# Altium footprint library trafo-hammondmfg.PCBLIB: 17 footprints (part 1 of 2)
Each footprint in its own frame and in the unit in brackets; x right, y up, seen from the top. Pads: shape width x height; smd on the part's side, far side on the other; paste and mask are expansions set on the pad; w line width, h text height; cw(c..) or ccw(c..) is an arc to the next point about the centre after c.
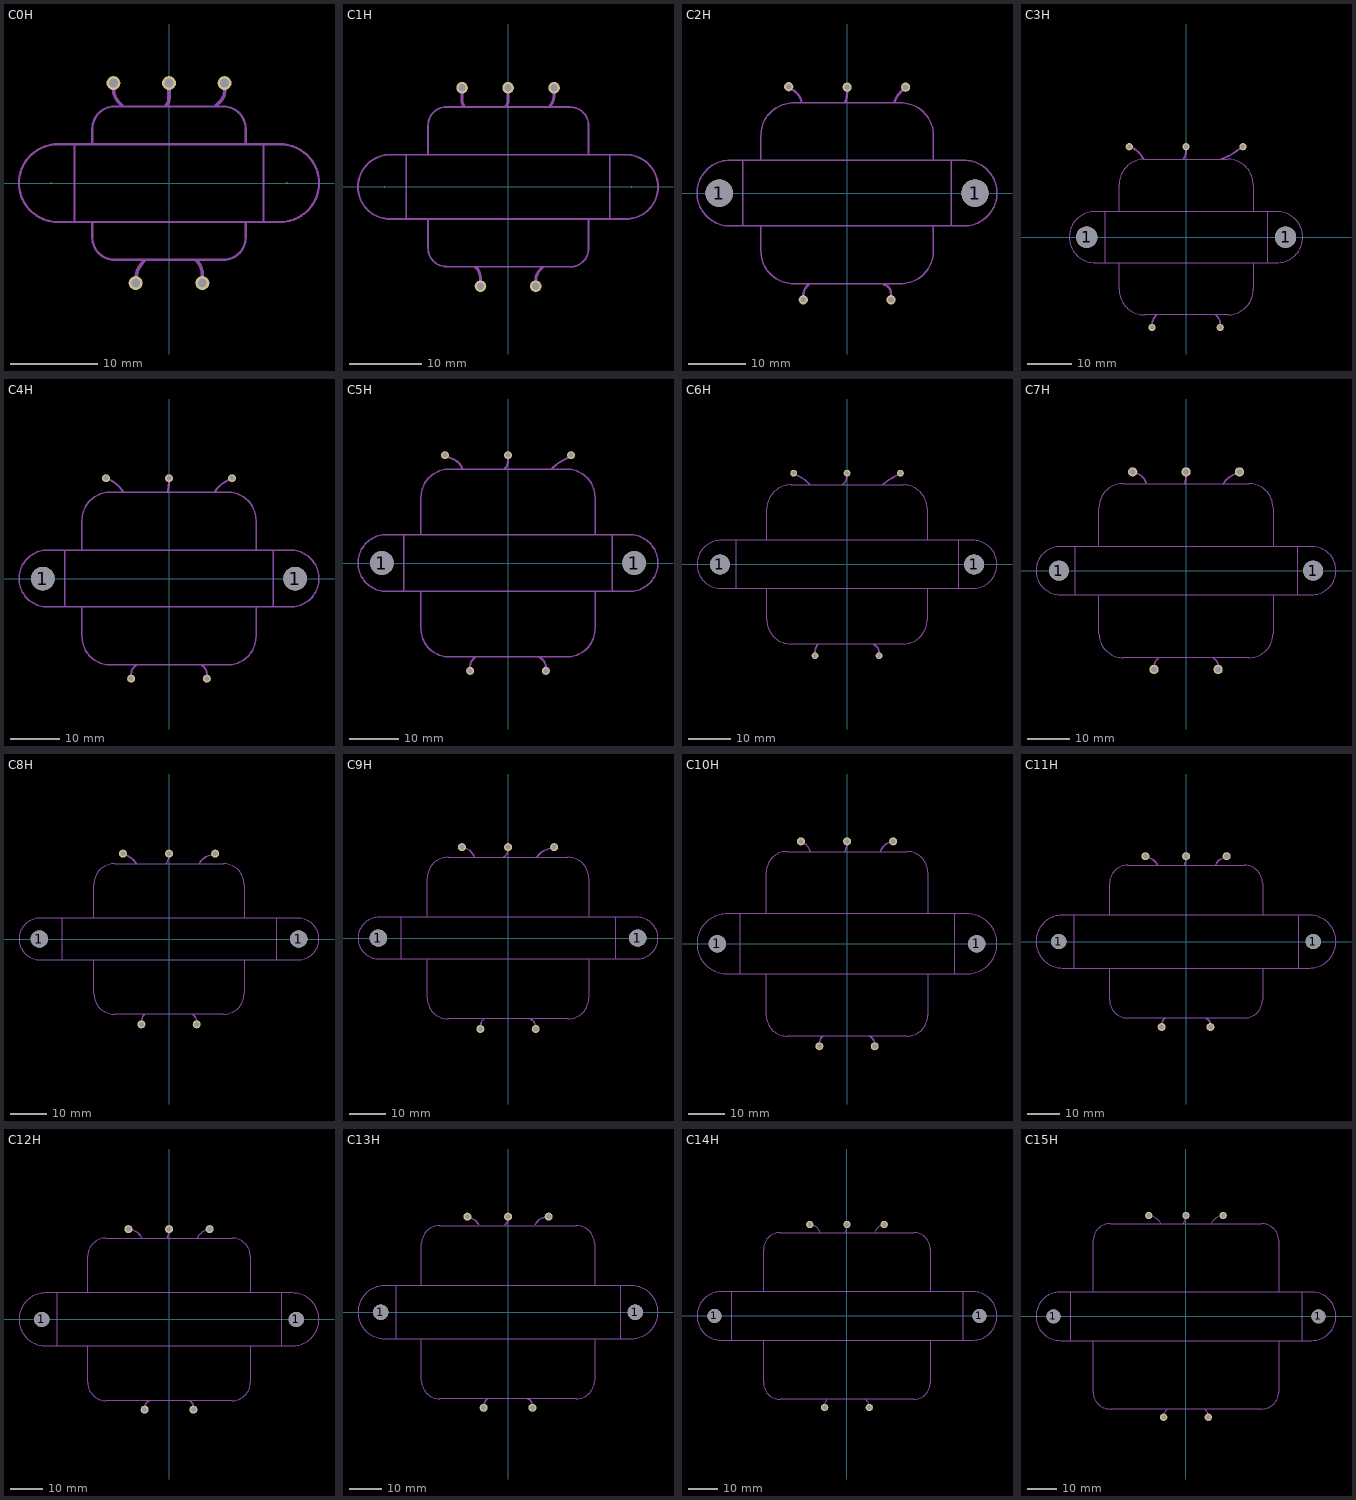
[diagram p0: the footprints below, top view; thin cyan lines are the x and y axes]

## C0H [mm]
pads (7):
  round 0.003 hole 0.003: 1(-13.462,0) 1(13.462,0)
  round 1.6 hole 1: BLK@1(-3.81,-11.43) BLK@2(3.81,-11.43) GRN/YEL(0,11.43) GRN@1(-6.35,11.43) GRN@2(6.35,11.43)
Mechanical 2:
  lines w0.254: -10.795,-4.445 -12.7,-4.445 cw(c-12.7,0) -17.145,0 cw(c-12.7,0) -12.7,4.445 -10.795,4.445 ; -10.795,-4.445 -8.763,-4.445 ; -10.795,-4.445 -10.795,4.445 ; -10.795,4.445 -8.763,4.445 ; -8.763,-4.445 8.763,-4.445 ; -8.763,-4.445 -8.763,-6.223 ccw(c-6.223,-6.223) -6.223,-8.763 6.223,-8.763 ccw(c6.223,-6.223) 8.763,-6.223 8.763,-4.445 ; -8.763,4.445 8.763,4.445 ; -8.763,4.445 -8.763,6.223 cw(c-6.223,6.223) -6.223,8.763 6.223,8.763 cw(c6.223,6.223) 8.763,6.223 8.763,4.445 ; 8.763,-4.445 10.795,-4.445 ; 8.763,4.445 10.795,4.445 ; 10.795,-4.445 12.7,-4.445 ccw(c12.7,0) 17.145,0 ccw(c12.7,0) 12.7,4.445 10.795,4.445 ; 10.795,-4.445 10.795,4.445
Mechanical 18:
  lines w0.406: -6.35,11.43 -6.35,10.795 ccw(c-4.05,10.795) -5.676,9.169 -5.397,8.89 ; -3.81,-11.43 -3.81,-11.189 cw(c-0.558,-11.19) -2.857,-8.89 ; -0.318,8.89 ccw(c-1.084,9.657) 0,9.657 0,10.16 0,11.43 ; 3.175,-8.89 cw(c1.642,-10.423) 3.81,-10.423 3.81,-10.795 3.81,-11.43 ; 5.397,8.89 5.901,9.393 ccw(c4.817,10.478) 6.35,10.477 6.35,11.43

## C1H [mm]
pads (7):
  round 0.003 hole 0.003: 1(-17.037,0) 1(17.012,0)
  round 1.6 hole 1: BLK@1(-3.81,-13.705) BLK@2(3.81,-13.705) GRN/YEL(0,13.68) GRN@1(-6.35,13.68) GRN@2(6.35,13.68)
Mechanical 2:
  lines w0.254: -14.053,-4.445 -16.275,-4.445 cw(c-16.275,0) -20.72,0 cw(c-16.275,0) -16.275,4.445 -14.053,4.445 ; -14.053,-4.445 -11.038,-4.42 ; -14.053,-4.445 -14.053,4.445 ; -14.053,4.445 -11.038,4.47 ; -11.038,-4.42 11.113,-4.445 ; -11.038,-4.42 -11.038,-8.473 ccw(c-8.498,-8.473) -8.498,-11.013 8.573,-11.038 ccw(c8.573,-8.498) 11.113,-8.498 11.113,-4.445 ; -11.038,4.47 11.113,4.445 ; -11.038,4.47 -11.038,8.498 cw(c-8.498,8.498) -8.498,11.038 8.573,11.013 cw(c8.573,8.473) 11.113,8.473 11.113,4.445 ; 11.113,-4.445 14.027,-4.445 ; 11.113,4.445 14.027,4.445 ; 14.027,-4.445 16.25,-4.445 ccw(c16.25,0) 20.695,0 ccw(c16.25,0) 16.25,4.445 14.027,4.445 ; 14.027,-4.445 14.027,4.445
Mechanical 18:
  lines w0.406: -6.35,13.652 -6.35,13.018 -6.35,11.879 ccw(c-5.266,11.879) -6.032,11.112 ; -4.445,-11.113 cw(c-5.978,-12.646) -3.81,-12.646 -3.81,-12.7 -3.81,-13.652 ; -0.318,11.112 ccw(c-1.084,11.879) 0,11.879 0,12.065 0,13.652 ; 3.81,-13.652 3.81,-13.018 cw(c6.191,-13.018) 4.762,-11.113 ; 5.715,11.113 ccw(c4.182,12.646) 6.35,12.646 6.35,13.018 6.35,13.652

## C2H [mil]
pads (7):
  round 187 hole 187: 1(-875,0) 1(875,0)
  round 62.99 hole 39.37: BLK@1(-300,-730.12) BLK@2(300,-730.12) GRN/YEL(0,725) GRN@1(-400,728.15) GRN@2(400,725)
Mechanical 2:
  lines w10: -714.86,-225 -802.36,-225 cw(c-802.36,0) -1027.36,0 cw(c-802.36,0) -802.36,225 -714.86,225 ; -714.86,-225 -590,-225 ; -714.86,-225 -714.86,225 ; -714.86,225 -590,225 ; -590,-225 590,-225 ; -590,-225 -590,-395.12 ccw(c-365,-395.12) -365,-620.12 365,-620.12 ccw(c365,-395.12) 590,-395.12 590,-225 ; -590,225 590,225 ; -590,225 -590,393.15 cw(c-365,393.15) -365,618.15 365,618.15 cw(c365,393.15) 590,393.15 590,225 ; 590,-225 712.89,-225 ; 590,225 712.89,225 ; 712.89,-225 800.39,-225 ccw(c800.39,0) 1025.39,0 ccw(c800.39,0) 800.39,225 712.89,225 ; 712.89,-225 712.89,225
Mechanical 18:
  lines w16: -400,725 -362.5,700 cw(c-427.5,602.5) -312.5,625 ; -300,-725 -300,-700 cw(c-206.25,-700) -262.5,-625 ; -12.5,625 ccw(c-162.5,687.5) 0,687.5 0,725 ; 250,-625 cw(c235.94,-687.5) 300,-687.5 300,-725 ; 325,625 cw(c468.75,581.25) 362.5,687.5 400,725

## C3H [mil]
pads (7):
  round 187 hole 187: 1(-875,0) 1(875,0)
  round 62.99 hole 39.37: BLK@1(-300,-794.09) BLK@2(300,-794.09) GRN/YEL(0,796.06) GRN@1(-500,796.06) GRN@2(500,796.06)
Mechanical 2:
  lines w10: -714.86,-225 -802.36,-225 cw(c-802.36,0) -1027.36,0 cw(c-802.36,0) -802.36,225 -714.86,225 ; -714.86,-225 -590,-225 ; -714.86,-225 -714.86,225 ; -714.86,225 -590,225 ; -590,-225 590,-225 ; -590,-225 -590,-459.09 ccw(c-365,-459.09) -365,-684.09 365,-684.09 ccw(c365,-459.09) 590,-459.09 590,-225 ; -590,225 590,225 ; -590,225 -590,461.06 cw(c-365,461.06) -365,686.06 365,686.06 cw(c365,461.06) 590,461.06 590,225 ; 590,-225 712.89,-225 ; 590,225 712.89,225 ; 712.89,-225 800.39,-225 ccw(c800.39,0) 1025.39,0 ccw(c800.39,0) 800.39,225 712.89,225 ; 712.89,-225 712.89,225
Mechanical 18:
  lines w16: -500,800 -475,787.5 cw(c-575,587.5) -375,687.5 ; -300,-787.5 -300,-775 cw(c-179.17,-775) -262.5,-687.5 ; -25,687.5 ccw(c-125,762.5) 0,762.5 0,800 ; 262.5,-687.5 cw(c206.25,-762.5) 300,-762.5 300,-787.5 ; 312.5,687.5 ccw(c122.92,1198.61) 450,762.5 500,800

## C4H [mil]
pads (7):
  round 187 hole 187: 1(-1000,0) 1(1000,0)
  round 62.99 hole 39.37: BLK@1(-300,-794.09) BLK@2(300,-794.09) GRN/YEL(0,796.06) GRN@1(-500,796.06) GRN@2(500,796.06)
Mechanical 2:
  lines w10: -827.26,-225 -964.76,-225 cw(c-964.76,0) -1189.76,0 cw(c-964.76,0) -964.76,225 -827.26,225 ; -827.26,-225 -690.39,-225 ; -827.26,-225 -827.26,225 ; -827.26,225 -690.39,225 ; -690.39,-225 690.39,-225 ; -690.39,-225 -690.39,-459.09 ccw(c-465.39,-459.09) -465.39,-684.09 465.39,-684.09 ccw(c465.39,-459.09) 690.39,-459.09 690.39,-225 ; -690.39,225 690.39,225 ; -690.39,225 -690.39,461.06 cw(c-465.39,461.06) -465.39,686.06 465.39,686.06 cw(c465.39,461.06) 690.39,461.06 690.39,225 ; 690.39,-225 827.26,-225 ; 690.39,225 827.26,225 ; 827.26,-225 964.76,-225 ccw(c964.76,0) 1189.76,0 ccw(c964.76,0) 964.76,225 827.26,225 ; 827.26,-225 827.26,225
Mechanical 18:
  lines w16: -500,800 -475,787.5 cw(c-604.46,528.57) -362.5,687.5 ; -300,-787.5 -300,-762.5 cw(c-206.25,-762.5) -262.5,-687.5 ; -12.5,687.5 ccw(c-312.5,775) 0,775 0,800 ; 262.5,-687.5 cw(c206.25,-762.5) 300,-762.5 300,-787.5 ; 362.5,687.5 cw(c550,575) 437.5,762.5 500,800

## C5H [mil]
pads (7):
  round 187 hole 187: 1(-1000,0) 1(1000,0)
  round 62.99 hole 39.37: BLK@1(-300,-855.12) BLK@2(300,-855.12) GRN/YEL(0,855.12) GRN@1(-500,855.12) GRN@2(500,855.12)
Mechanical 2:
  lines w10: -827.26,-225 -964.76,-225 cw(c-964.76,0) -1189.76,0 cw(c-964.76,0) -964.76,225 -827.26,225 ; -827.26,-225 -690.39,-225 ; -827.26,-225 -827.26,225 ; -827.26,225 -690.39,225 ; -690.39,-225 690.39,-225 ; -690.39,-225 -690.39,-520.12 ccw(c-465.39,-520.12) -465.39,-745.12 465.39,-745.12 ccw(c465.39,-520.12) 690.39,-520.12 690.39,-225 ; -690.39,225 690.39,225 ; -690.39,225 -690.39,520.12 cw(c-465.39,520.12) -465.39,745.12 465.39,745.12 cw(c465.39,520.12) 690.39,520.12 690.39,225 ; 690.39,-225 827.26,-225 ; 690.39,225 827.26,225 ; 827.26,-225 964.76,-225 ccw(c964.76,0) 1189.76,0 ccw(c964.76,0) 964.76,225 827.26,225 ; 827.26,-225 827.26,225
Mechanical 18:
  lines w16: -500,850 -437.5,825 cw(c-487.5,700) -362.5,750 ; -300,-850 -300,-825 cw(c-206.25,-825) -262.5,-750 ; -25,750 ccw(c-90.62,812.5) 0,812.5 0,850 ; 250,-750 cw(c218.75,-825) 300,-825 300,-850 ; 350,750 cw(c540.62,575.78) 412.5,800 500,850

## C6H [mil]
pads (7):
  round 187 hole 187: 1(-1190,0) 1(1190,0)
  round 62.99 hole 39.37: BLK@1(-300,-855.12) BLK@2(300,-855.12) GRN/YEL(0,855.12) GRN@1(-500,855.12) GRN@2(500,855.12)
Mechanical 2:
  lines w10: -1042.81,-225 -1180.31,-225 cw(c-1180.31,0) -1405.31,0 cw(c-1180.31,0) -1180.31,225 -1042.81,225 ; -1042.81,-225 -750.43,-225 ; -1042.81,-225 -1042.81,225 ; -1042.81,225 -750.43,225 ; -750.43,-225 749.45,-225 ; -750.43,-225 -750.43,-520.12 ccw(c-525.43,-520.12) -525.43,-745.12 524.45,-745.12 ccw(c524.45,-520.12) 749.45,-520.12 749.45,-225 ; -750.43,225 749.45,225 ; -750.43,225 -750.43,520.12 cw(c-525.43,520.12) -525.43,745.12 524.45,745.12 cw(c524.45,520.12) 749.45,520.12 749.45,225 ; 749.45,-225 1041.83,-225 ; 749.45,225 1041.83,225 ; 1041.83,-225 1179.33,-225 ccw(c1179.33,0) 1404.33,0 ccw(c1179.33,0) 1179.33,225 1041.83,225 ; 1041.83,-225 1041.83,225
Mechanical 18:
  lines w16: -500,850 -450,825 cw(c-606.25,512.5) -350,750 ; -300,-850 -300,-825 cw(c-175,-825) -275,-750 ; -37.5,750 ccw(c-120.83,837.5) 0,837.5 0,862.5 ; 250,-750 cw(c218.75,-825) 300,-825 300,-850 ; 337.5,750 cw(c693.75,337.5) 450,825 500,850

## C7H [mil]
pads (7):
  round 187 hole 187: 1(-1190,0) 1(1190,0)
  round 86.61 hole 55.12: BLK@1(-300,-925) BLK@2(300,-925) GRN/YEL(0,925) GRN@1(-500,925) GRN@2(500,925)
Mechanical 2:
  lines w10: -1042.81,-225 -1180.31,-225 cw(c-1180.31,0) -1405.31,0 cw(c-1180.31,0) -1180.31,225 -1042.81,225 ; -1042.81,-225 -815.39,-225 ; -1042.81,-225 -1042.81,225 ; -1042.81,225 -815.39,225 ; -815.39,-225 814.41,-225 ; -815.39,-225 -815.39,-590 ccw(c-590.39,-590) -590.39,-815 589.41,-815 ccw(c589.41,-590) 814.41,-590 814.41,-225 ; -815.39,225 814.41,225 ; -815.39,225 -815.39,590 cw(c-590.39,590) -590.39,815 589.41,815 cw(c589.41,590) 814.41,590 814.41,225 ; 814.41,-225 1041.83,-225 ; 814.41,225 1041.83,225 ; 1041.83,-225 1179.33,-225 ccw(c1179.33,0) 1404.33,0 ccw(c1179.33,0) 1179.33,225 1041.83,225 ; 1041.83,-225 1041.83,225
Mechanical 18:
  lines w16: -500,925 -462.5,912.5 cw(c-506.25,781.25) -375,825 ; -300,-912.5 -300,-900 cw(c-206.25,-900) -262.5,-825 ; -12.5,812.5 ccw(c-231.25,887.5) 0,887.5 0,925 ; 262.5,-825 cw(c229.17,-887.5) 300,-887.5 300,-925 ; 350,812.5 cw(c500,737.5) 425,887.5 500,925

## C8H [mil]
pads (7):
  round 187 hole 187: 1(-1405,0) 1(1405,0)
  round 86.61 hole 55.12: BLK@1(-300,-925) BLK@2(300,-925) GRN/YEL(0,925) GRN@1(-500,925) GRN@2(500,925)
Mechanical 2:
  lines w10: -1163.29,-225 -1400.79,-225 cw(c-1400.79,0) -1625.79,0 cw(c-1400.79,0) -1400.79,225 -1163.29,225 ; -1163.29,-225 -815.39,-225 ; -1163.29,-225 -1163.29,225 ; -1163.29,225 -815.39,225 ; -815.39,-225 814.41,-225 ; -815.39,-225 -815.39,-590 ccw(c-590.39,-590) -590.39,-815 589.41,-815 ccw(c589.41,-590) 814.41,-590 814.41,-225 ; -815.39,225 814.41,225 ; -815.39,225 -815.39,590 cw(c-590.39,590) -590.39,815 589.41,815 cw(c589.41,590) 814.41,590 814.41,225 ; 814.41,-225 1162.3,-225 ; 814.41,225 1162.3,225 ; 1162.3,-225 1399.8,-225 ccw(c1399.8,0) 1624.8,0 ccw(c1399.8,0) 1399.8,225 1162.3,225 ; 1162.3,-225 1162.3,225
Mechanical 18:
  lines w16: -500,925 -450,900 cw(c-567.71,664.58) -350,812.5 ; -300,-925 -300,-912.5 cw(c-147.92,-912.5) -262.5,-812.5 ; -37.5,812.5 ccw(c-152.08,912.5) 0,912.5 0,925 ; 250,-812.5 cw(c198.44,-900) 300,-900 300,-925 ; 325,812.5 cw(c479.33,737.02) 425,900 500,925

## C9H [mil]
pads (7):
  round 187 hole 187: 1(-1405,0) 1(1405,0)
  round 86.61 hole 55.12: BLK@1(-300,-985.04) BLK@2(300,-985.04) GRN/YEL(0,985.04) GRN@1(-500,985.04) GRN@2(500,985.04)
Mechanical 2:
  lines w10: -1163.29,-225 -1400.79,-225 cw(c-1400.79,0) -1625.79,0 cw(c-1400.79,0) -1400.79,225 -1163.29,225 ; -1163.29,-225 -875.43,-225 ; -1163.29,-225 -1163.29,225 ; -1163.29,225 -875.43,225 ; -875.43,-225 874.45,-225 ; -875.43,-225 -875.43,-650.04 ccw(c-650.43,-650.04) -650.43,-875.04 649.45,-875.04 ccw(c649.45,-650.04) 874.45,-650.04 874.45,-225 ; -875.43,225 874.45,225 ; -875.43,225 -875.43,650.04 cw(c-650.43,650.04) -650.43,875.04 649.45,875.04 cw(c649.45,650.04) 874.45,650.04 874.45,225 ; 874.45,-225 1162.3,-225 ; 874.45,225 1162.3,225 ; 1162.3,-225 1399.8,-225 ccw(c1399.8,0) 1624.8,0 ccw(c1399.8,0) 1399.8,225 1162.3,225 ; 1162.3,-225 1162.3,225
Mechanical 18:
  lines w16: -500,987.5 -462.5,975 cw(c-512.5,825) -362.5,875 ; -300,-975 -300,-962.5 cw(c-179.17,-962.5) -262.5,-875 ; -50,875 ccw(c-101.56,962.5) 0,962.5 0,987.5 ; 237.5,-875 cw(c207.5,-962.5) 300,-962.5 300,-987.5 ; 312.5,875 cw(c492.71,759.38) 425,962.5 500,987.5

## C10H [mil]
pads (7):
  round 187 hole 187: 1(-1405,0) 1(1405,0)
  round 86.61 hole 55.12: BLK@1(-300,-1110.04) BLK@2(300,-1110.04) GRN/YEL(0,1110.04) GRN@1(-500,1110.04) GRN@2(500,1110.04)
Mechanical 2:
  lines w10: -1163.29,-325 -1300.79,-325 cw(c-1300.79,0) -1625.79,0 cw(c-1300.79,0) -1300.79,325 -1163.29,325 ; -1163.29,-325 -875.43,-325 ; -1163.29,-325 -1163.29,325 ; -1163.29,325 -875.43,325 ; -875.43,-325 874.45,-325 ; -875.43,-325 -875.43,-775.04 ccw(c-650.43,-775.04) -650.43,-1000.04 649.45,-1000.04 ccw(c649.45,-775.04) 874.45,-775.04 874.45,-325 ; -875.43,325 874.45,325 ; -875.43,325 -875.43,775.04 cw(c-650.43,775.04) -650.43,1000.04 649.45,1000.04 cw(c649.45,775.04) 874.45,775.04 874.45,325 ; 874.45,-325 1162.3,-325 ; 874.45,325 1162.3,325 ; 1162.3,-325 1299.8,-325 ccw(c1299.8,0) 1624.8,0 ccw(c1299.8,0) 1299.8,325 1162.3,325 ; 1162.3,-325 1162.3,325
Mechanical 18:
  lines w16: -500,1112.5 -462.5,1087.5 cw(c-546.59,961.36) -400,1000 ; -300,-1100 -300,-1087.5 cw(c-179.17,-1087.5) -262.5,-1000 ; -25,1000 ccw(c-212.5,1100) 0,1100 0,1112.5 ; 237.5,-1000 cw(c207.5,-1087.5) 300,-1087.5 300,-1112.5 ; 362.5,1000 cw(c512.5,950) 462.5,1100 500,1112.5

## C11H [mil]
pads (7):
  round 187 hole 187: 1(-1565,0) 1(1565,0)
  round 98.43 hole 62.99: BLK@1(-300,-1050) BLK@2(300,-1050) GRN/YEL(0,1050) GRN@1(-500,1050) GRN@2(500,1050)
Mechanical 2:
  lines w10: -1382.78,-325 -1520.28,-325 cw(c-1520.28,0) -1845.28,0 cw(c-1520.28,0) -1520.28,325 -1382.78,325 ; -1382.78,-325 -940.39,-325 ; -1382.78,-325 -1382.78,325 ; -1382.78,325 -940.39,325 ; -940.39,-325 940.39,-325 ; -940.39,-325 -940.39,-715 ccw(c-715.39,-715) -715.39,-940 715.39,-940 ccw(c715.39,-715) 940.39,-715 940.39,-325 ; -940.39,325 940.39,325 ; -940.39,325 -940.39,715 cw(c-715.39,715) -715.39,940 715.39,940 cw(c715.39,715) 940.39,715 940.39,325 ; 940.39,-325 1381.79,-325 ; 940.39,325 1381.79,325 ; 1381.79,-325 1519.29,-325 ccw(c1519.29,0) 1844.29,0 ccw(c1519.29,0) 1519.29,325 1381.79,325 ; 1381.79,-325 1381.79,325
Mechanical 18:
  lines w16: -500,1050 -437.5,1025 cw(c-495.83,879.17) -350,937.5 ; -300,-1050 -300,-1025 cw(c-198.44,-1025) -250,-937.5 ; -25,937.5 ccw(c-165.62,1025) 0,1025 0,1050 ; 237.5,-937.5 cw(c207.5,-1025) 300,-1025 300,-1050 ; 362.5,937.5 cw(c479.46,903.57) 425,1012.5 500,1050

## C12H [mil]
pads (7):
  round 187 hole 187: 1(-1565,0) 1(1565,0)
  round 98.43 hole 62.99: BLK@1(-300,-1110.04) BLK@2(300,-1110.04) GRN/YEL(0,1110.04) GRN@1(-500,1110.04) GRN@2(500,1110.04)
Mechanical 2:
  lines w10: -1382.78,-325 -1520.28,-325 cw(c-1520.28,0) -1845.28,0 cw(c-1520.28,0) -1520.28,325 -1382.78,325 ; -1382.78,-325 -1000.43,-325 ; -1382.78,-325 -1382.78,325 ; -1382.78,325 -1000.43,325 ; -1000.43,-325 999.45,-325 ; -1000.43,-325 -1000.43,-775.04 ccw(c-775.43,-775.04) -775.43,-1000.04 774.45,-1000.04 ccw(c774.45,-775.04) 999.45,-775.04 999.45,-325 ; -1000.43,325 999.45,325 ; -1000.43,325 -1000.43,775.04 cw(c-775.43,775.04) -775.43,1000.04 774.45,1000.04 cw(c774.45,775.04) 999.45,775.04 999.45,325 ; 999.45,-325 1381.79,-325 ; 999.45,325 1381.79,325 ; 1381.79,-325 1519.29,-325 ccw(c1519.29,0) 1844.29,0 ccw(c1519.29,0) 1519.29,325 1381.79,325 ; 1381.79,-325 1381.79,325
Mechanical 18:
  lines w16: -500,1112.5 -450,1100 cw(c-489.4,942.39) -337.5,1000 ; -300,-1100 -300,-1087.5 cw(c-207.5,-1087.5) -237.5,-1000 ; -25,1000 ccw(c-212.5,1100) 0,1100 0,1112.5 ; 250,-1000 cw(c218.75,-1075) 300,-1075 300,-1100 ; 350,1000 cw(c495.83,941.67) 437.5,1087.5 500,1112.5

## C13H [mil]
pads (7):
  round 187 hole 187: 1(-1565,0) 1(1565,0)
  round 98.43 hole 62.99: BLK@1(-300,-1175.04) BLK@2(300,-1175.04) GRN/YEL(0,1175.04) GRN@1(-500,1175.04) GRN@2(500,1175.04)
Mechanical 2:
  lines w10: -1382.78,-325 -1520.28,-325 cw(c-1520.28,0) -1845.28,0 cw(c-1520.28,0) -1520.28,325 -1382.78,325 ; -1382.78,-325 -1065.43,-325 ; -1382.78,-325 -1382.78,325 ; -1382.78,325 -1065.43,325 ; -1065.43,-325 1064.45,-325 ; -1065.43,-325 -1065.43,-840.04 ccw(c-840.43,-840.04) -840.43,-1065.04 839.45,-1065.04 ccw(c839.45,-840.04) 1064.45,-840.04 1064.45,-325 ; -1065.43,325 1064.45,325 ; -1065.43,325 -1065.43,840.04 cw(c-840.43,840.04) -840.43,1065.04 839.45,1065.04 cw(c839.45,840.04) 1064.45,840.04 1064.45,325 ; 1064.45,-325 1381.79,-325 ; 1064.45,325 1381.79,325 ; 1381.79,-325 1519.29,-325 ccw(c1519.29,0) 1844.29,0 ccw(c1519.29,0) 1519.29,325 1381.79,325 ; 1381.79,-325 1381.79,325
Mechanical 18:
  lines w16: -500,1175 -462.5,1162.5 cw(c-516.83,999.52) -362.5,1075 ; -300,-1175 -300,-1162.5 cw(c-175,-1162.5) -250,-1062.5 ; -37.5,1075 ccw(c-93.75,1150) 0,1150 0,1175 ; 237.5,-1062.5 cw(c207.5,-1150) 300,-1150 300,-1175 ; 337.5,1075 cw(c463.66,1031.71) 437.5,1162.5 500,1175

## C14H [mil]
pads (7):
  round 187 hole 187: 1(-1780,0) 1(1780,0)
  round 98.43 hole 62.99: BLK@1(-300,-1230.04) BLK@2(300,-1230.04) GRN/YEL(0,1230.04) GRN@1(-500,1230.04) GRN@2(500,1230.04)
Mechanical 2:
  lines w10: -1552.07,-325 -1689.57,-325 cw(c-1689.57,0) -2014.57,0 cw(c-1689.57,0) -1689.57,325 -1552.07,325 ; -1552.07,-325 -1120.43,-325 ; -1552.07,-325 -1552.07,325 ; -1552.07,325 -1120.43,325 ; -1120.43,-325 1119.45,-325 ; -1120.43,-325 -1120.43,-895.04 ccw(c-895.43,-895.04) -895.43,-1120.04 894.45,-1120.04 ccw(c894.45,-895.04) 1119.45,-895.04 1119.45,-325 ; -1120.43,325 1119.45,325 ; -1120.43,325 -1120.43,895.04 cw(c-895.43,895.04) -895.43,1120.04 894.45,1120.04 cw(c894.45,895.04) 1119.45,895.04 1119.45,325 ; 1119.45,-325 1553.05,-325 ; 1119.45,325 1553.05,325 ; 1553.05,-325 1690.55,-325 ccw(c1690.55,0) 2015.55,0 ccw(c1690.55,0) 1690.55,325 1553.05,325 ; 1553.05,-325 1553.05,325
Mechanical 18:
  lines w16: -500,1225 -450,1212.5 cw(c-479.17,1095.83) -362.5,1125 ; -300,-1225 -300,-1200 cw(c-175,-1200) -275,-1125 ; -25,1125 ccw(c-165.62,1212.5) 0,1212.5 0,1225 ; 250,-1125 cw(c198.44,-1212.5) 300,-1212.5 300,-1237.5 ; 375,1125 cw(c516.41,1079.69) 450,1212.5 500,1237.5

## C15H [mil]
pads (7):
  round 187 hole 187: 1(-1780,0) 1(1780,0)
  round 98.43 hole 62.99: BLK@1(-300,-1355.04) BLK@2(300,-1355.04) GRN/YEL(0,1355.04) GRN@1(-500,1355.04) GRN@2(500,1355.04)
Mechanical 2:
  lines w10: -1552.07,-325 -1689.57,-325 cw(c-1689.57,0) -2014.57,0 cw(c-1689.57,0) -1689.57,325 -1552.07,325 ; -1552.07,-325 -1245.43,-325 ; -1552.07,-325 -1552.07,325 ; -1552.07,325 -1245.43,325 ; -1245.43,-325 1244.45,-325 ; -1245.43,-325 -1245.43,-1020.04 ccw(c-1020.43,-1020.04) -1020.43,-1245.04 1019.45,-1245.04 ccw(c1019.45,-1020.04) 1244.45,-1020.04 1244.45,-325 ; -1245.43,325 1244.45,325 ; -1245.43,325 -1245.43,1020.04 cw(c-1020.43,1020.04) -1020.43,1245.04 1019.45,1245.04 cw(c1019.45,1020.04) 1244.45,1020.04 1244.45,325 ; 1244.45,-325 1553.05,-325 ; 1244.45,325 1553.05,325 ; 1553.05,-325 1690.55,-325 ccw(c1690.55,0) 2015.55,0 ccw(c1690.55,0) 1690.55,325 1553.05,325 ; 1553.05,-325 1553.05,325
Mechanical 18:
  lines w16: -500,1362.5 -437.5,1337.5 cw(c-511.84,1151.64) -337.5,1250 ; -300,-1350 -300,-1337.5 cw(c-198.44,-1337.5) -250,-1250 ; -37.5,1250 ccw(c-152.08,1350) 0,1350 0,1362.5 ; 250,-1250 cw(c198.44,-1337.5) 300,-1337.5 300,-1350 ; 337.5,1250 cw(c511.84,1151.64) 437.5,1337.5 500,1362.5